# EAGLE library part EXPANSION (library snes_mb)
Expansion connector for external (EXT) devices (eg. Satellaview)
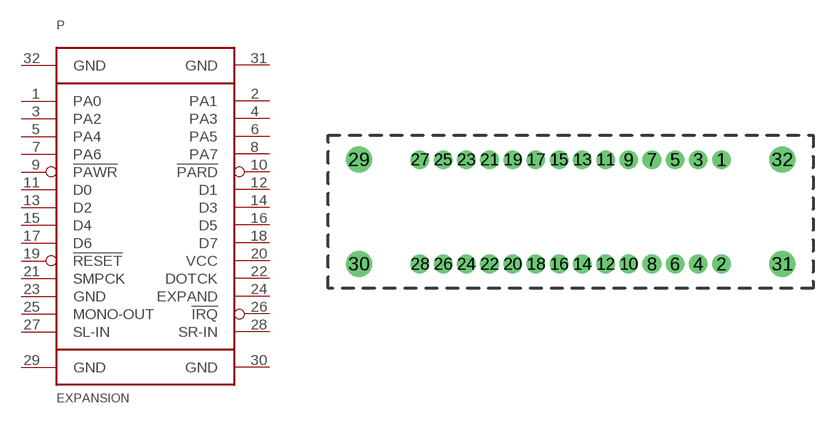
[diagram p1: symbol with the pads of EXPANSION; footprint EXPANSION]

Designator prefix P

## EXPANSION  [EXPANSION]
1  PA0
2  PA1
3  PA2
4  PA3
5  PA4
6  PA5
7  PA6
8  PA7
9  !PAWR
10  !PARD
11  D0
12  D1
13  D2
14  D3
15  D4
16  D5
17  D6
18  D7
19  !RESET
20  VCC  pwr
21  SMPCK
22  DOTCK
23  GND  pwr
24  EXPAND
25  MONO-OUT  out
26  !IRQ
27  SL-IN  in
28  SR-IN  in
29  GND  pwr
30  GND  pwr
31  GND  pwr
32  GND  pwr

## Footprint EXPANSION (pad centres in mm)
drill 1 pad 1.6: 1 13,4.5; 2 13,-4.5; 3 11,4.5; 4 11,-4.5; 5 9,4.5; 6 9,-4.5; 7 7,4.5; 8 7,-4.5; 9 5,4.5; 10 5,-4.5; 11 3,4.5; 12 3,-4.5; 13 1,4.5; 14 1,-4.5; 15 -1,4.5; 16 -1,-4.5; 17 -3,4.5; 18 -3,-4.5; 19 -5,4.5; 20 -5,-4.5; 21 -7,4.5; 22 -7,-4.5; 23 -9,4.5; 24 -9,-4.5; 25 -11,4.5; 26 -11,-4.5; 27 -13,4.5; 28 -13,-4.5
drill 1.5 pad 2.2: 29 -18.25,4.5; 30 -18.25,-4.5; 31 18.25,-4.5; 32 18.25,4.5